# Altium schematic symbol library LED_TEMPLATE.SchLib: 1 symbol
Pins are listed as number, name and electrical type; pins without a type are passive.

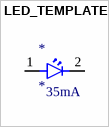
[diagram p0: symbol LED_TEMPLATE]

## LED_TEMPLATE
designator *  Max Current: 35mA
[DESCRIPTION]; PN: *; Color: *; Max Temp: *; Min Temp: *; Forward Voltage: *; Package: *; Footprint: *; MFR: *
pins: 1, 2